# EAGLE library part LIS344ALHMOD (library msp432Launchpad)
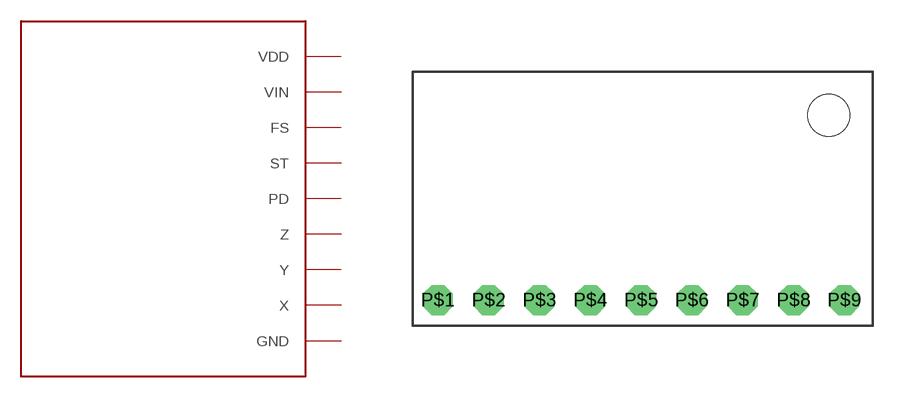
[diagram p2: symbol with the pads of LIS344ALH; footprint LIS344ALH]

Designator prefix -

## LIS344ALHMOD  [LIS344ALH]
P$1  VDD
P$2  VIN
P$3  FS
P$4  ST
P$5  PD
P$6  Z
P$7  Y
P$8  X
P$9  GND

## Footprint LIS344ALH (pad centres in mm)
drill 1 octagon: P$1 1.26,1.27; P$2 3.8,1.27; P$3 6.34,1.27; P$4 8.88,1.27; P$5 11.42,1.27; P$6 13.96,1.27; P$7 16.5,1.27; P$8 19.04,1.27; P$9 21.58,1.27
hole 2.1 at 20.8,10.5